# Altium footprint library 5PIN_2MM.PcbLib: 1 footprints
Each footprint in its own frame and in the unit in brackets; x right, y up, seen from the top. Pads: shape width x height; smd on the part's side, far side on the other; paste and mask are expansions set on the pad; w line width, h text height; cw(c..) or ccw(c..) is an arc to the next point about the centre after c.
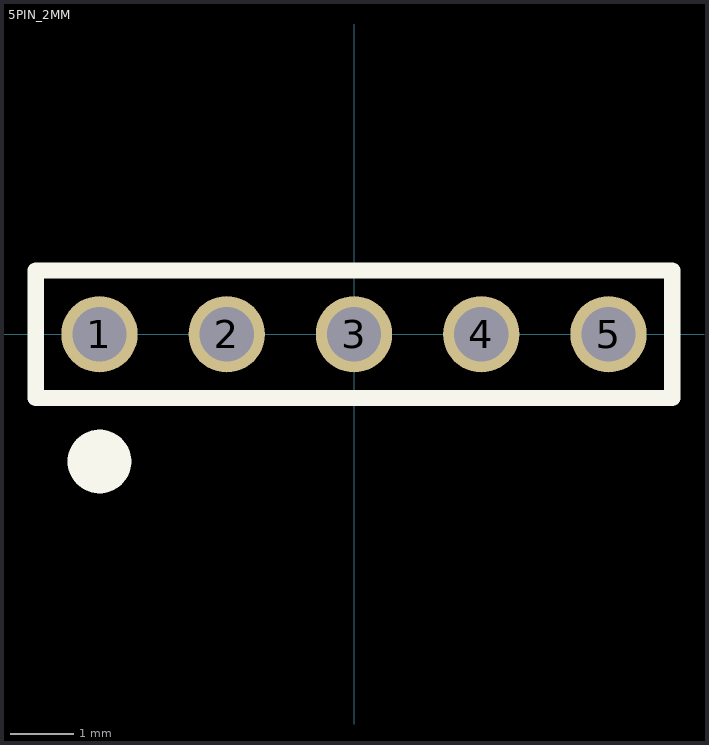
[diagram p0: the footprint, top view; thin cyan lines are the x and y axes]

## 5PIN_2MM [mm]
pads (5):
  round 1.2 hole 0.85: 1(-4,0) 2(-2,0) 3(0,0) 4(2,0) 5(4,0)
Top Overlay:
  circle w0.5: c-4,-2 r0.25
  lines w0.254: -5,-1 -5,1 5,1 5,-1 -5,-1